# EAGLE library part ARDUINO_NANO (library Part_lib)
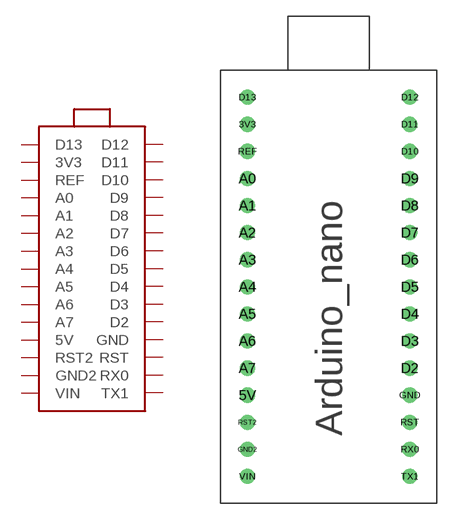
[diagram p0: symbol with the pads of ARDUINO_NANO; footprint ARDUINO_NANO]

Designator prefix ARDUINO_NANO

## ARDUINO_NANO  [ARDUINO_NANO]
3V3  3V3
5V  5V
A0  A0
A1  A1
A2  A2
A3  A3
A4  A4
A5  A5
A6  A6
A7  A7
D2  D2
D3  D3
D4  D4
D5  D5
D6  D6
D7  D7
D8  D8
D9  D9
D10  D10
D11  D11
D12  D12
D13  D13
GND  GND
GND2  GND2
REF  REF
RST  RST
RST2  RST2
RX0  RX0
TX1  TX1
VIN  VIN

## Footprint ARDUINO_NANO (pad centres in mm)
drill 0.75 pad 1.422: 3V3 -7.62,5.08; 5V -7.62,-20.32; A0 -7.62,0; A1 -7.62,-2.54; A2 -7.62,-5.08; A3 -7.62,-7.62; A4 -7.62,-10.16; A5 -7.62,-12.7; A6 -7.62,-15.24; A7 -7.62,-17.78; D2 7.62,-17.78; D3 7.62,-15.24; D4 7.62,-12.7; D5 7.62,-10.16; D6 7.62,-7.62; D7 7.62,-5.08; D8 7.62,-2.54; D9 7.62,0; D10 7.62,2.54; D11 7.62,5.08; D12 7.62,7.62; D13 -7.62,7.62; GND 7.62,-20.32; GND2 -7.62,-25.4; REF -7.62,2.54; RST 7.62,-22.86; RST2 -7.62,-22.86; RX0 7.62,-25.4; TX1 7.62,-27.94; VIN -7.62,-27.94